# Altium integrated library Resistors.IntLib: 159 symbols (part 2 of 2)
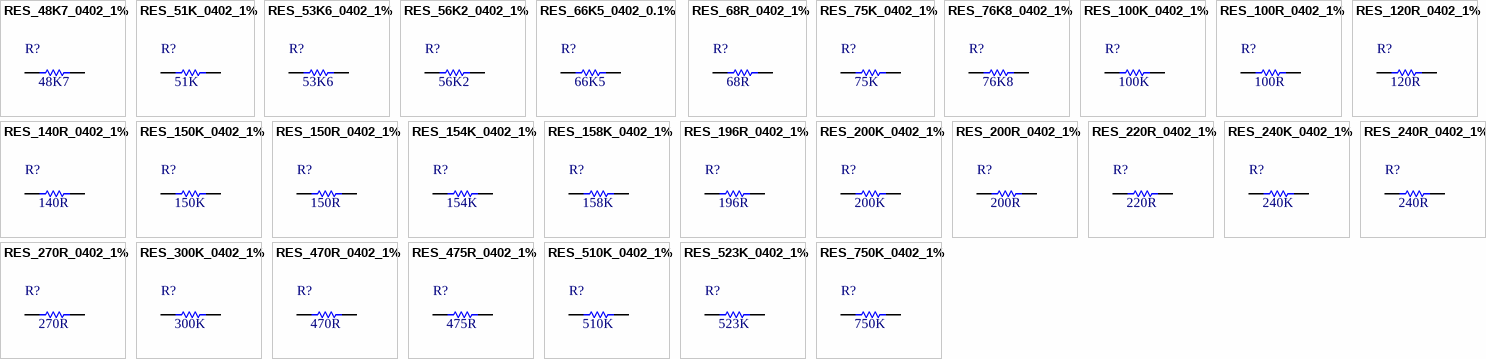
[diagram p8: symbols RES_48K7_0402_1% to RES_750K_0402_1%]

## RES_140R_0402_1%
designator R?, comment value 140R  (hidden comment: 140R 1% 0402)
140R 0.063W 1% 0402 (1005 Metric); Manufacturer: KOA Speer; PartNumber: RK73H1ETTP1400F; Tolerance: 1%; Power: 0.063W; Mounting Technology: Surface Mount; PackageReference: 0402; PackageDescription: 0402 (1005 Metric); ComponentLink1Description: Datasheet; ComponentLink1URL: http://www.koaspeer.com/catimages/Products/RK73H/RK73H.pdf
footprint R0402[1005] (Chip Resistor, Body 1.0x0.5mm)
pins: 1, 2

## RES_150K_0402_1%
designator R?, comment value 150K  (hidden comment: 150K 1% 0402)
150K 0.063W 1% 0402 (1005 Metric); Manufacturer: KOA Speer; PartNumber: RK73H1ETTP1503F; Tolerance: 1%; Power: 0.063W; Mounting Technology: Surface Mount; PackageReference: 0402; PackageDescription: 0402 (1005 Metric); ComponentLink1Description: Datasheet; ComponentLink1URL: http://www.koaspeer.com/catimages/Products/RK73H/RK73H.pdf
footprint R0402[1005] (Chip Resistor, Body 1.0x0.5mm)
pins: 1, 2

## RES_150R_0402_1%
designator R?, comment value 150R  (hidden comment: 150R 1% 0402)
150R 0.063W 1% 0402 (1005 Metric); Manufacturer: KOA Speer; PartNumber: RK73H1ETTP1500F; Tolerance: 1%; Power: 0.063W; Mounting Technology: Surface Mount; PackageReference: 0402; PackageDescription: 0402 (1005 Metric); ComponentLink1Description: Datasheet; ComponentLink1URL: http://www.koaspeer.com/catimages/Products/RK73H/RK73H.pdf
footprint R0402[1005] (Chip Resistor, Body 1.0x0.5mm)
pins: 1, 2

## RES_154K_0402_1%
designator R?, comment value 154K  (hidden comment: 154K 1% 0402)
154K 0.063W 1% 0402 (1005 Metric); Manufacturer: KOA Speer; PartNumber: RK73H1ETTP1543F; Tolerance: 1%; Power: 0.063W; Mounting Technology: Surface Mount; PackageReference: 0402; PackageDescription: 0402 (1005 Metric); ComponentLink1Description: Datasheet; ComponentLink1URL: http://www.koaspeer.com/catimages/Products/RK73H/RK73H.pdf
footprint R0402[1005] (Chip Resistor, Body 1.0x0.5mm)
pins: 1, 2

## RES_158K_0402_1%
designator R?, comment value 158K  (hidden comment: 158K 1% 0402)
158K 0.1W 1% 0402 (1005 Metric); Manufacturer: KOA Speer; PartNumber: RK73H1ETTP1502F; Power: 0.063W; Tolerance: 1%; Mounting Technology: Surface Mount; PackageReference: 0402; PackageDescription: 0402 (1005 Metric); ComponentLink1Description: Datasheet; ComponentLink1URL: http://www.koaspeer.com/catimages/Products/RK73H/RK73H.pdf
footprint R0402[1005] (Chip Resistor, Body 1.0x0.5mm)
pins: 1, 2

## RES_196R_0402_1%
designator R?, comment value 196R  (hidden comment: 196R 1% 0402)
196R 0.063W 1% 0402 (1005 Metric); Manufacturer: KOA Speer; PartNumber: RK73H1ETTP1960F; Tolerance: 1%; Power: 0.063W; Mounting Technology: Surface Mount; PackageReference: 0402; PackageDescription: 0402 (1005 Metric); ComponentLink1Description: Datasheet; ComponentLink1URL: http://www.koaspeer.com/catimages/Products/RK73H/RK73H.pdf
footprint R0402[1005] (Chip Resistor, Body 1.0x0.5mm)
pins: 1, 2

## RES_200K_0402_1%
designator R?, comment value 200K  (hidden comment: 200K 1% 0402)
200K 0.063W 1% 0402 (1005 Metric); Manufacturer: KOA Speer; PartNumber: RK73H1ETTP2003F; Tolerance: 1%; Power: 0.063W; Mounting Technology: Surface Mount; PackageReference: 0402; PackageDescription: 0402 (1005 Metric); ComponentLink1Description: Datasheet; ComponentLink1URL: http://www.koaspeer.com/catimages/Products/RK73H/RK73H.pdf
footprint R0402[1005] (Chip Resistor, Body 1.0x0.5mm)
pins: 1, 2

## RES_200R_0402_1%
designator R?, comment value 200R  (hidden comment: 200R 1% 0402)
200R 0.063W 1% 0402 (1005 Metric); Manufacturer: KOA Speer; PartNumber: RK73H1ETTP2000F; Tolerance: 1%; Power: 0.063W; Mounting Technology: Surface Mount; PackageReference: 0402; PackageDescription: 0402 (1005 Metric); ComponentLink1Description: Datasheet; ComponentLink1URL: http://www.koaspeer.com/catimages/Products/RK73H/RK73H.pdf
footprint R0402[1005] (Chip Resistor, Body 1.0x0.5mm)
pins: 1, 2

## RES_220R_0402_1%
designator R?, comment value 220R  (hidden comment: 220R 1% 0402)
220R 0.063W 1% 0402 (1005 Metric); Manufacturer: KOA Speer; PartNumber: RK73H1ETTP2200F; Tolerance: 1%; Power: 0.063W; Mounting Technology: Surface Mount; PackageReference: 0402; PackageDescription: 0402 (1005 Metric); ComponentLink1Description: Datasheet; ComponentLink1URL: http://www.koaspeer.com/catimages/Products/RK73H/RK73H.pdf
footprint R0402[1005] (Chip Resistor, Body 1.0x0.5mm)
pins: 1, 2

## RES_240K_0402_1%
designator R?, comment value 240K  (hidden comment: 240K 1% 0402)
240K 0.063W 1% 0402 (1005 Metric); Manufacturer: KOA Speer; PartNumber: RK73H1ETTP2403F; Tolerance: 1%; Power: 0.063W; Mounting Technology: Surface Mount; PackageReference: 0402; PackageDescription: 0402 (1005 Metric); ComponentLink1Description: Datasheet; ComponentLink1URL: http://www.koaspeer.com/catimages/Products/RK73H/RK73H.pdf
footprint R0402[1005] (Chip Resistor, Body 1.0x0.5mm)
pins: 1, 2

## RES_240R_0402_1%
designator R?, comment value 240R  (hidden comment: 240R 1% 0402)
240R 0.063W 1% 0402 (1005 Metric); Manufacturer: KOA Speer; PartNumber: RK73H1ETTP2400F; Tolerance: 1%; Power: 0.063W; Mounting Technology: Surface Mount; PackageReference: 0402; PackageDescription: 0402 (1005 Metric); ComponentLink1Description: Datasheet; ComponentLink1URL: http://www.koaspeer.com/catimages/Products/RK73H/RK73H.pdf
footprint R0402[1005] (Chip Resistor, Body 1.0x0.5mm)
pins: 1, 2

## RES_270R_0402_1%
designator R?, comment value 270R  (hidden comment: 270R 1% 0402)
270R 0.063W 1% 0402 (1005 Metric); Manufacturer: KOA Speer; PartNumber: RK73H1ETTP2700F; Tolerance: 1%; Power: 0.063W; Mounting Technology: Surface Mount; PackageReference: 0402; PackageDescription: 0402 (1005 Metric); ComponentLink1Description: Datasheet; ComponentLink1URL: http://www.koaspeer.com/catimages/Products/RK73H/RK73H.pdf
footprint R0402[1005] (Chip Resistor, Body 1.0x0.5mm)
pins: 1, 2

## RES_300K_0402_1%
designator R?, comment value 300K  (hidden comment: 300K 1% 0402)
300K 0.063W 1% 0402 (1005 Metric); Manufacturer: KOA Speer; PartNumber: RK73H1ETTP3003F; Tolerance: 1%; Power: 0.063W; Mounting Technology: Surface Mount; PackageReference: 0402; PackageDescription: 0402 (1005 Metric); ComponentLink1Description: Datasheet; ComponentLink1URL: http://www.koaspeer.com/catimages/Products/RK73H/RK73H.pdf
footprint R0402[1005] (Chip Resistor, Body 1.0x0.5mm)
pins: 1, 2

## RES_470R_0402_1%
designator R?, comment value 470R  (hidden comment: 470R 1% 0402)
470R 0.063W 1% 0402 (1005 Metric); Manufacturer: KOA Speer; PartNumber: RK73H1ETTP4700F; Tolerance: 1%; Power: 0.063W; Mounting Technology: Surface Mount; PackageReference: 0402; PackageDescription: 0402 (1005 Metric); ComponentLink1Description: Datasheet; ComponentLink1URL: http://www.koaspeer.com/catimages/Products/RK73H/RK73H.pdf
footprint R0402[1005] (Chip Resistor, Body 1.0x0.5mm)
pins: 1, 2

## RES_475R_0402_1%
designator R?, comment value 475R  (hidden comment: 475R 1% 0402)
475R 0.063W 1% 0402 (1005 Metric); Manufacturer: KOA Speer; PartNumber: RK73H1ETTP4750F; Tolerance: 1%; Power: 0.063W; Mounting Technology: Surface Mount; PackageReference: 0402; PackageDescription: 0402 (1005 Metric); ComponentLink1Description: Datasheet; ComponentLink1URL: http://www.koaspeer.com/catimages/Products/RK73H/RK73H.pdf
footprint R0402[1005] (Chip Resistor, Body 1.0x0.5mm)
pins: 1, 2

## RES_510K_0402_1%
designator R?, comment value 510K  (hidden comment: 510K 1% 0402)
510K 0.063W 1% 0402 (1005 Metric); Manufacturer: KOA Speer; PartNumber: RK73H1ETTP5103F; Tolerance: 1%; Power: 0.063W; Mounting Technology: Surface Mount; PackageReference: 0402; PackageDescription: 0402 (1005 Metric); ComponentLink1Description: Datasheet; ComponentLink1URL: http://www.koaspeer.com/catimages/Products/RK73H/RK73H.pdf
footprint R0402[1005] (Chip Resistor, Body 1.0x0.5mm)
pins: 1, 2

## RES_523K_0402_1%
designator R?, comment value 523K  (hidden comment: 523K 1% 0402)
523K 0.063W 1% 0402 (1005 Metric); Manufacturer: KOA Speer; PartNumber: RK73H1ETTP5233F; Tolerance: 1%; Power: 0.063W; Mounting Technology: Surface Mount; PackageReference: 0402; PackageDescription: 0402 (1005 Metric); ComponentLink1Description: Datasheet; ComponentLink1URL: http://www.koaspeer.com/catimages/Products/RK73H/RK73H.pdf
footprint R0402[1005] (Chip Resistor, Body 1.0x0.5mm)
pins: 1, 2

## RES_750K_0402_1%
designator R?, comment value 750K  (hidden comment: 750K 1% 0402)
750K 0.063W 1% 0402 (1005 Metric); Manufacturer: KOA Speer; PartNumber: RK73H1ETTP7503F; Tolerance: 1%; Power: 0.063W; Mounting Technology: Surface Mount; PackageReference: 0402; PackageDescription: 0402 (1005 Metric); ComponentLink1Description: Datasheet; ComponentLink1URL: http://www.koaspeer.com/catimages/Products/RK73H/RK73H.pdf
footprint R0402[1005] (Chip Resistor, Body 1.0x0.5mm)
pins: 1, 2


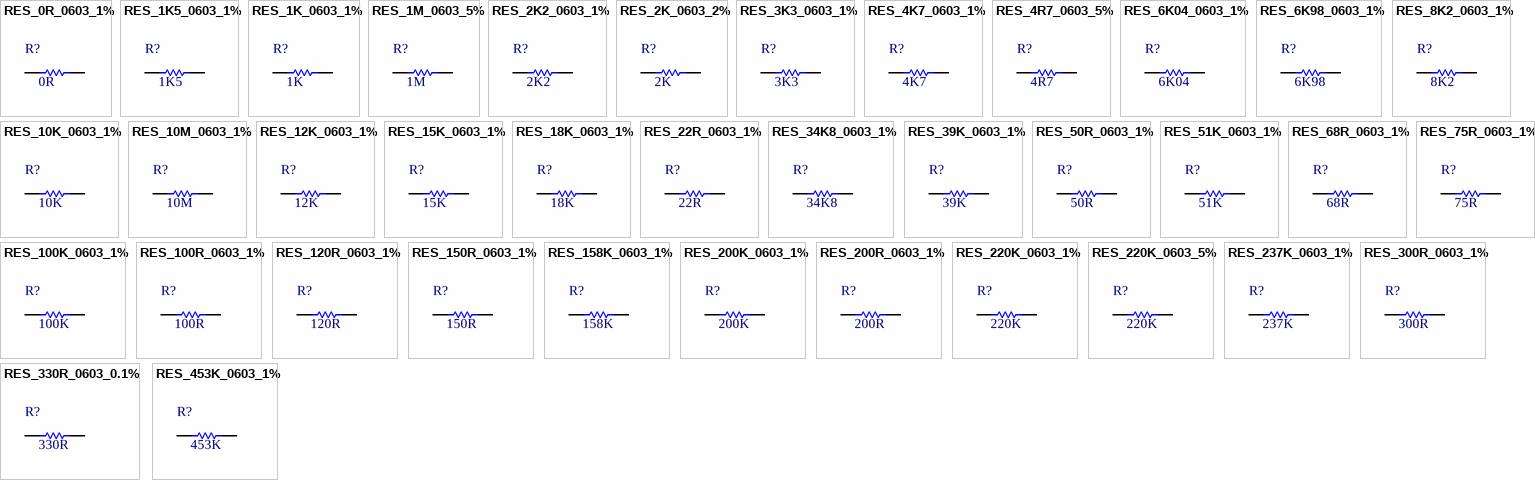
[diagram p7: symbols RES_0R_0603_1% to RES_453K_0603_1%]

## RES_0R_0603_1%
designator R?, comment value 0R  (hidden comment: 0R 1% 0603)
0R 0.25W 1% 0603 (1005 Metric); Manufacturer: Vishay / Dale; PartNumber: CRCW06030000Z0EAHP; Tolerance: 1%; Power: 0.25W; Mounting Technology: Surface Mount; PackageReference: 0603; PackageDescription: 0603 (1608 Metric); ComponentLink1Description: Datasheet; ComponentLink1URL: http://www.vishay.com/docs/20043/crcwhpe3.pdf
footprint R0603[1608] (Chip Resistor, Body 1.55x0.85mm)
pins: 1, 2

## RES_1K5_0603_1%
designator R?, comment value 1K5  (hidden comment: 1K5 1% 0603)
1K5 0.25W 1% 0603 (1005 Metric); Manufacturer: Vishay / Dale; PartNumber: CRCW06031K50FKEAHP; Tolerance: 1%; Power: 0.25W; Mounting Technology: Surface Mount; PackageReference: 0603; PackageDescription: 0603 (1608 Metric); ComponentLink1Description: Datasheet; ComponentLink1URL: http://www.vishay.com/docs/20043/crcwhpe3.pdf
footprint R0603[1608] (Chip Resistor, Body 1.55x0.85mm)
pins: 1, 2

## RES_1K_0603_1%
designator R?, comment value 1K  (hidden comment: 1K 1% 0603)
1K 0.25W 1% 0603 (1005 Metric); Manufacturer: Vishay / Dale; PartNumber: CRCW06031K00FKEAHP; Tolerance: 1%; Power: 0.25W; Mounting Technology: Surface Mount; PackageReference: 0603; PackageDescription: 0603 (1608 Metric); ComponentLink1Description: Datasheet; ComponentLink1URL: http://www.vishay.com/docs/20043/crcwhpe3.pdf
footprint R0603[1608] (Chip Resistor, Body 1.55x0.85mm)
pins: 1, 2

## RES_1M_0603_5%
designator R?, comment value 1M  (hidden comment: 1M 5% 0603)
1M 0.25W 5% 0603 (1005 Metric); Manufacturer: Panasonic; PartNumber: ERJ-PA3J105V; Tolerance: 5%; Power: 0.25W; Mounting Technology: Surface Mount; PackageReference: 0603; PackageDescription: 0603 (1608 Metric); ComponentLink1Description: Datasheet; ComponentLink1URL: http://www.vishay.com/docs/20043/crcwhpe3.pdf
footprint R0603[1608] (Chip Resistor, Body 1.55x0.85mm)
pins: 1, 2

## RES_2K2_0603_1%
designator R?, comment value 2K2  (hidden comment: 2K2 1% 0603)
2K2 0.25W 1% 0603 (1005 Metric); Manufacturer: Vishay / Dale; PartNumber: CRCW06032K20FKEAHP; Tolerance: 1%; Power: 0.25W; Mounting Technology: Surface Mount; PackageReference: 0603; PackageDescription: 0603 (1608 Metric); ComponentLink1Description: Datasheet; ComponentLink1URL: http://www.vishay.com/docs/20043/crcwhpe3.pdf
footprint R0603[1608] (Chip Resistor, Body 1.55x0.85mm)
pins: 1, 2

## RES_2K_0603_2%
designator R?, comment value 2K  (hidden comment: 2K 2% 0603)
2K 1.5W 2% 0603 (1005 Metric); Manufacturer: Vishay; PartNumber: RCP0603W2K00GEB; Tolerance: 2%; Power: 1.5W; Mounting Technology: Surface Mount; PackageReference: 0603; PackageDescription: 0603 (1608 Metric); ComponentLink1Description: Datasheet; ComponentLink1URL: http://www.vishay.com/docs/20043/crcwhpe3.pdf
footprint R0603[1608] (Chip Resistor, Body 1.55x0.85mm)
pins: 1, 2

## RES_3K3_0603_1%
designator R?, comment value 3K3  (hidden comment: 4K7 1% 0603)
3K3 0.25W 1% 0603 (1005 Metric); Manufacturer: Vishay / Dale; PartNumber: CRCW06033K30FKEAHP; Tolerance: 1%; Power: 0.25W; Mounting Technology: Surface Mount; PackageReference: 0603; PackageDescription: 0603 (1608 Metric); ComponentLink1Description: Datasheet; ComponentLink1URL: http://www.vishay.com/docs/20043/crcwhpe3.pdf
footprint R0603[1608] (Chip Resistor, Body 1.55x0.85mm)
pins: 1, 2

## RES_4K7_0603_1%
designator R?, comment value 4K7  (hidden comment: 4K7 1% 0603)
4K7 0.25W 1% 0603 (1005 Metric); Manufacturer: Vishay / Dale; PartNumber: CRCW06034K70FKEAHP; Tolerance: 1%; Power: 0.25W; Mounting Technology: Surface Mount; PackageReference: 0603; PackageDescription: 0603 (1608 Metric); ComponentLink1Description: Datasheet; ComponentLink1URL: http://www.vishay.com/docs/20043/crcwhpe3.pdf
footprint R0603[1608] (Chip Resistor, Body 1.55x0.85mm)
pins: 1, 2

## RES_4R7_0603_5%
designator R?, comment value 4R7  (hidden comment: 4R7 5% 0603)
4R7 0.25W 5% 0603 (1005 Metric); Manufacturer: Rohm; PartNumber: ESR03EZPJ4R7; Tolerance: 5%; Power: 0.25W; Mounting Technology: Surface Mount; PackageReference: 0603; PackageDescription: 0603 (1608 Metric); ComponentLink1Description: Datasheet; ComponentLink1URL: http://www.vishay.com/docs/20043/crcwhpe3.pdf
footprint R0603[1608] (Chip Resistor, Body 1.55x0.85mm)
pins: 1, 2

## RES_6K04_0603_1%
designator R?, comment value 6K04  (hidden comment: 6K04 1% 0603)
6K04 0.25W 1% 0603 (1005 Metric); Manufacturer: Vishay / Dale; PartNumber: CRCW06036K04FKEAHP; Tolerance: 1%; Power: 0.25W; Mounting Technology: Surface Mount; PackageReference: 0603; PackageDescription: 0603 (1608 Metric); ComponentLink1Description: Datasheet; ComponentLink1URL: http://www.vishay.com/docs/20043/crcwhpe3.pdf
footprint R0603[1608] (Chip Resistor, Body 1.55x0.85mm)
pins: 1, 2

## RES_6K98_0603_1%
designator R?, comment value 6K98  (hidden comment: 6K98 1% 0603)
6K98 0.25W 1% 0603 (1005 Metric); Manufacturer: Vishay / Dale; PartNumber: CRCW06036K98FKEAHP; Tolerance: 1%; Power: 0.25W; Mounting Technology: Surface Mount; PackageReference: 0603; PackageDescription: 0603 (1608 Metric); ComponentLink1Description: Datasheet; ComponentLink1URL: http://www.vishay.com/docs/20043/crcwhpe3.pdf
footprint R0603[1608] (Chip Resistor, Body 1.55x0.85mm)
pins: 1, 2

## RES_8K2_0603_1%
designator R?, comment value 8K2  (hidden comment: 8K2 1% 0603)
8K2 0.25W 1% 0603 (1005 Metric); Manufacturer: Vishay; PartNumber: CRCW06038K20FKEAHP; Tolerance: 1%; Power: 0.25W; Mounting Technology: Surface Mount; PackageReference: 0603; PackageDescription: 0603 (1608 Metric); ComponentLink1Description: Datasheet; ComponentLink1URL: http://www.vishay.com/docs/20043/crcwhpe3.pdf
footprint R0603[1608] (Chip Resistor, Body 1.55x0.85mm)
pins: 1, 2

## RES_10K_0603_1%
designator R?, comment value 10K  (hidden comment: 10K 1% 0603)
10K 0.25W 1% 0603 (1005 Metric); Manufacturer: Vishay / Dale; PartNumber: CRCW060310K0FKEAHP; Tolerance: 1%; Power: 0.25W; Mounting Technology: Surface Mount; PackageReference: 0603; PackageDescription: 0603 (1608 Metric); ComponentLink1Description: Datasheet; ComponentLink1URL: http://www.vishay.com/docs/20065/rcse3.pdf
footprint R0603[1608] (Chip Resistor, Body 1.55x0.85mm)
pins: 1, 2

## RES_10M_0603_1%
designator R?, comment value 10M  (hidden comment: 10M 1% 0603)
10M 0.25W 1% 0603 (1005 Metric); Manufacturer: Vishay / Dale; PartNumber: RCS060310M0FKEA; Tolerance: 1%; Power: 0.25W; Mounting Technology: Surface Mount; PackageReference: 0603; PackageDescription: 0603 (1608 Metric); ComponentLink1Description: Datasheet; ComponentLink1URL: http://www.vishay.com/docs/20043/crcwhpe3.pdf
footprint R0603[1608] (Chip Resistor, Body 1.55x0.85mm)
pins: 1, 2

## RES_12K_0603_1%
designator R?, comment value 12K  (hidden comment: 12K 1% 0603)
12K 0.25W 1% 0603 (1005 Metric); Manufacturer: Vishay; PartNumber: RCS060312K0FKEA; Tolerance: 1%; Power: 0.25W; Mounting Technology: Surface Mount; PackageReference: 0603; PackageDescription: 0603 (1608 Metric); ComponentLink1Description: Datasheet; ComponentLink1URL: http://www.vishay.com/docs/20065/rcse3.pdf
footprint R0603[1608] (Chip Resistor, Body 1.55x0.85mm)
pins: 1, 2

## RES_15K_0603_1%
designator R?, comment value 15K  (hidden comment: 15K 1% 0603)
15K 0.25W 1% 0603 (1005 Metric); Manufacturer: Vishay / Dale; PartNumber: CRCW060315K0FKEAHP; Tolerance: 1%; Power: 0.25W; Mounting Technology: Surface Mount; PackageReference: 0603; PackageDescription: 0603 (1608 Metric); ComponentLink1Description: Datasheet; ComponentLink1URL: http://www.vishay.com/docs/20043/crcwhpe3.pdf
footprint R0603[1608] (Chip Resistor, Body 1.55x0.85mm)
pins: 1, 2

## RES_18K_0603_1%
designator R?, comment value 18K  (hidden comment: 18K 1% 0603)
18K 0.25W 1% 0603 (1005 Metric); Manufacturer: Vishay / Dale; PartNumber: CRCW060318K0FKEAHP; Tolerance: 1%; Power: 0.25W; Mounting Technology: Surface Mount; PackageReference: 0603; PackageDescription: 0603 (1608 Metric); ComponentLink1Description: Datasheet; ComponentLink1URL: http://www.vishay.com/docs/20043/crcwhpe3.pdf
footprint R0603[1608] (Chip Resistor, Body 1.55x0.85mm)
pins: 1, 2

## RES_22R_0603_1%
designator R?, comment value 22R  (hidden comment: 22R 1% 0603)
22R 0.25W 1% 0603 (1005 Metric); Manufacturer: Vishay / Dale; PartNumber: CRCW060322R0FKEAHP; Tolerance: 1%; Power: 0.25W; Mounting Technology: Surface Mount; PackageReference: 0603; PackageDescription: 0603 (1608 Metric); ComponentLink1Description: Datasheet; ComponentLink1URL: http://www.vishay.com/docs/20043/crcwhpe3.pdf
footprint R0603[1608] (Chip Resistor, Body 1.55x0.85mm)
pins: 1, 2

## RES_34K8_0603_1%
designator R?, comment value 34K8  (hidden comment: 34K8 1% 0603)
34K8 0.1W 1% 0603 (1005 Metric); Manufacturer: Panasonic; PartNumber: ERJ-3EKF3482V; Tolerance: 1%; Power: 0.1W; Mounting Technology: Surface Mount; PackageReference: 0603; PackageDescription: 0603 (1608 Metric); ComponentLink1Description: Datasheet; ComponentLink1URL: http://www.vishay.com/docs/20043/crcwhpe3.pdf
footprint R0603[1608] (Chip Resistor, Body 1.55x0.85mm)
pins: 1, 2

## RES_39K_0603_1%
designator R?, comment value 39K  (hidden comment: 39K 1% 0603)
39K 0.25W 1% 0603 (1005 Metric); Manufacturer: Vishay / Dale; PartNumber: CRCW060339K0FKEAHP; Tolerance: 1%; Power: 0.25W; Mounting Technology: Surface Mount; PackageReference: 0603; PackageDescription: 0603 (1608 Metric); ComponentLink1Description: Datasheet; ComponentLink1URL: http://www.vishay.com/docs/20043/crcwhpe3.pdf
footprint R0603[1608] (Chip Resistor, Body 1.55x0.85mm)
pins: 1, 2

## RES_50R_0603_1%
designator R?, comment value 50R  (hidden comment: 50R 1% 0603)
50R 0.25W 1% 0603 (1005 Metric); Manufacturer: Vishay / Dale; PartNumber: CRCW060349R9FKEAHP; Tolerance: 1%; Power: 0.25W; Mounting Technology: Surface Mount; PackageReference: 0603; PackageDescription: 0603 (1608 Metric); ComponentLink1Description: Datasheet; ComponentLink1URL: http://www.vishay.com/docs/20043/crcwhpe3.pdf
footprint R0603[1608] (Chip Resistor, Body 1.55x0.85mm)
pins: 1, 2

## RES_51K_0603_1%
designator R?, comment value 51K  (hidden comment: 51K 1% 0603)
51K 0.25W 1% 0603 (1005 Metric); Manufacturer: Panasonic; PartNumber: ERJ-PA3F5102V; Tolerance: 1%; Power: 0.25W; Mounting Technology: Surface Mount; PackageReference: 0603; PackageDescription: 0603 (1608 Metric); ComponentLink1Description: Datasheet; ComponentLink1URL: http://www.vishay.com/docs/20043/crcwhpe3.pdf
footprint R0603[1608] (Chip Resistor, Body 1.55x0.85mm)
pins: 1, 2

## RES_68R_0603_1%
designator R?, comment value 68R  (hidden comment: 68R 1% 0603)
68R 0.25W 1% 0603 (1005 Metric); Manufacturer: Panasonic; PartNumber: ERJ-PA3F68R0V; Tolerance: 1%; Power: 0.25W; Mounting Technology: Surface Mount; PackageReference: 0603; PackageDescription: 0603 (1608 Metric); ComponentLink1Description: Datasheet; ComponentLink1URL: http://www.vishay.com/docs/20043/crcwhpe3.pdf
footprint R0603[1608] (Chip Resistor, Body 1.55x0.85mm)
pins: 1, 2

## RES_75R_0603_1%
designator R?, comment value 75R  (hidden comment: 75R 1% 0603)
75R 0.25W 1% 0603 (1005 Metric); Manufacturer: Vishay / Dale; PartNumber: CRCW060375R0FKEAHP; Tolerance: 1%; Power: 0.25W; Mounting Technology: Surface Mount; PackageReference: 0603; PackageDescription: 0603 (1608 Metric); ComponentLink1Description: Datasheet; ComponentLink1URL: http://www.vishay.com/docs/20043/crcwhpe3.pdf
footprint R0603[1608] (Chip Resistor, Body 1.55x0.85mm)
pins: 1, 2

## RES_100K_0603_1%
designator R?, comment value 100K  (hidden comment: 100K 1% 0603)
100K 0.25W 1% 0603 (1005 Metric); Manufacturer: Vishay / Dale; PartNumber: CRCW0603100KFKEAHP; Tolerance: 1%; Power: 0.25W; Mounting Technology: Surface Mount; PackageReference: 0603; PackageDescription: 0603 (1608 Metric); ComponentLink1Description: Datasheet; ComponentLink1URL: http://www.vishay.com/docs/20043/crcwhpe3.pdf
footprint R0603[1608] (Chip Resistor, Body 1.55x0.85mm)
pins: 1, 2

## RES_100R_0603_1%
designator R?, comment value 100R  (hidden comment: 100R 1% 0603)
100R 0.25W 1% 0603 (1005 Metric); Manufacturer: Vishay / Dale; PartNumber: CRCW0603100RFKEAHP; Tolerance: 1%; Power: 0.25W; Mounting Technology: Surface Mount; PackageReference: 0603; PackageDescription: 0603 (1608 Metric); ComponentLink1Description: Datasheet; ComponentLink1URL: http://www.vishay.com/docs/20043/crcwhpe3.pdf
footprint R0603[1608] (Chip Resistor, Body 1.55x0.85mm)
pins: 1, 2

## RES_120R_0603_1%
designator R?, comment value 120R  (hidden comment: 120R 1% 0603)
120R 0.25W 1% 0603 (1005 Metric); Manufacturer: Vishay / Dale; PartNumber: CRCW0603120RFKEAHP; Tolerance: 1%; Power: 0.25W; Mounting Technology: Surface Mount; PackageReference: 0603; PackageDescription: 0603 (1608 Metric); ComponentLink1Description: Datasheet; ComponentLink1URL: http://www.vishay.com/docs/20043/crcwhpe3.pdf
footprint R0603[1608] (Chip Resistor, Body 1.55x0.85mm)
pins: 1, 2

## RES_150R_0603_1%
designator R?, comment value 150R  (hidden comment: 150R 1% 0603)
150R 0.25W 1% 0603 (1005 Metric); Manufacturer: Vishay / Dale; PartNumber: CRCW0603150RFKEAHP; Tolerance: 1%; Power: 0.25W; Mounting Technology: Surface Mount; PackageReference: 0603; PackageDescription: 0603 (1608 Metric); ComponentLink1Description: Datasheet; ComponentLink1URL: http://www.vishay.com/docs/20043/crcwhpe3.pdf
footprint R0603[1608] (Chip Resistor, Body 1.55x0.85mm)
pins: 1, 2

## RES_158K_0603_1%
designator R?, comment value 158K  (hidden comment: 158K 1% 0603)
158K 0.1W 1% 0603 (1005 Metric); Manufacturer: Vishay / Dale; PartNumber: CRCW0603158KFKEA; Tolerance: 1%; Power: 0.1W; Mounting Technology: Surface Mount; PackageReference: 0603; PackageDescription: 0603 (1608 Metric); ComponentLink1Description: Datasheet; ComponentLink1URL: http://www.vishay.com/docs/20043/crcwhpe3.pdf
footprint R0603[1608] (Chip Resistor, Body 1.55x0.85mm)
pins: 1, 2

## RES_200K_0603_1%
designator R?, comment value 200K  (hidden comment: 200K 1% 0603)
200K 0.25W 1% 0603 (1005 Metric); Manufacturer: Rohm Semiconductor; PartNumber: ESR03EZPJ204; Tolerance: 5%; Power: 0.25W; Mounting Technology: Surface Mount; PackageReference: 0603; PackageDescription: 0603 (1608 Metric); ComponentLink1Description: Datasheet; ComponentLink1URL: http://www.vishay.com/docs/20043/crcwhpe3.pdf
footprint R0603[1608] (Chip Resistor, Body 1.55x0.85mm)
pins: 1, 2

## RES_200R_0603_1%
designator R?, comment value 200R  (hidden comment: 200R 1% 0603)
200R 0.25W 1% 0603 (1005 Metric); Manufacturer: Vishay / Dale; PartNumber: CRCW0603200RFKEAHP; Tolerance: 1%; Power: 0.25W; Mounting Technology: Surface Mount; PackageReference: 0603; PackageDescription: 0603 (1608 Metric); ComponentLink1Description: Datasheet; ComponentLink1URL: http://www.vishay.com/docs/20043/crcwhpe3.pdf
footprint R0603[1608] (Chip Resistor, Body 1.55x0.85mm)
pins: 1, 2

## RES_220K_0603_1%
designator R?, comment value 220K  (hidden comment: 220K 1% 0603)
220K 0.25W 1% 0603 (1005 Metric); Manufacturer: Panasonic; PartNumber: ERJ-PA3F2203V; Tolerance: 1%; Power: 0.25W; Mounting Technology: Surface Mount; PackageReference: 0603; PackageDescription: 0603 (1608 Metric); ComponentLink1Description: Datasheet; ComponentLink1URL: http://www.vishay.com/docs/20043/crcwhpe3.pdf
footprint R0603[1608] (Chip Resistor, Body 1.55x0.85mm)
pins: 1, 2

## RES_220K_0603_5%
designator R?, comment value 220K  (hidden comment: 220K 5% 0603)
220K 0.25W 5% 0603 (1005 Metric); Manufacturer: Vishay / Dale; PartNumber: CRCW0603220KJNEAHP; Tolerance: 5%; Power: 0.25W; Mounting Technology: Surface Mount; PackageReference: 0603; PackageDescription: 0603 (1608 Metric); ComponentLink1Description: Datasheet; ComponentLink1URL: http://www.vishay.com/docs/20043/crcwhpe3.pdf
footprint R0603[1608] (Chip Resistor, Body 1.55x0.85mm)
pins: 1, 2

## RES_237K_0603_1%
designator R?, comment value 237K  (hidden comment: 237K 1% 0603)
237K 0.25W 1% 0603 (1005 Metric); Manufacturer: Vishay / Dale; PartNumber: CRCW06036K04FKEAHP; Tolerance: 1%; Power: 0.25W; Mounting Technology: Surface Mount; PackageReference: 0603; PackageDescription: 0603 (1608 Metric); ComponentLink1Description: Datasheet; ComponentLink1URL: http://www.vishay.com/docs/20043/crcwhpe3.pdf
footprint R0603[1608] (Chip Resistor, Body 1.55x0.85mm)
pins: 1, 2

## RES_300R_0603_1%
designator R?, comment value 300R  (hidden comment: 300R 0.1% 0603)
300R 0.25W 1% 0603 (1005 Metric); Manufacturer: Murata; PartNumber: CRCW0603300RFKEAHP; Tolerance: 1%; Power: 0.25W; Mounting Technology: Surface Mount; PackageReference: 0603; PackageDescription: 0603 (1608 Metric); ComponentLink1Description: Datasheet; ComponentLink1URL: http://www.vishay.com/docs/20043/crcwhpe3.pdf
footprint R0603[1608] (Chip Resistor, Body 1.55x0.85mm)
pins: 1, 2

## RES_330R_0603_0.1%
designator R?, comment value 330R  (hidden comment: 330R 0.1% 0603)
330R 0.2W 1% 0603 (1005 Metric); Manufacturer: Panasonic; PartNumber: ERJ-PB3B3300V; Tolerance: 0.1%; Power: 0.2W; Mounting Technology: Surface Mount; PackageReference: 0603; PackageDescription: 0603 (1608 Metric); ComponentLink1Description: Datasheet; ComponentLink1URL: http://www.vishay.com/docs/20043/crcwhpe3.pdf
footprint R0603[1608] (Chip Resistor, Body 1.55x0.85mm)
pins: 1, 2

## RES_453K_0603_1%
designator R?, comment value 453K  (hidden comment: 453K 1% 0603)
453K 0.25W 1% 0603 (1005 Metric); Manufacturer: Panasonic; PartNumber: ERJ-P03F4533V; Tolerance: 1%; Power: 0.25W; Mounting Technology: Surface Mount; PackageReference: 0603; PackageDescription: 0603 (1608 Metric); ComponentLink1Description: Datasheet; ComponentLink1URL: http://www.vishay.com/docs/20043/crcwhpe3.pdf
footprint R0603[1608] (Chip Resistor, Body 1.55x0.85mm)
pins: 1, 2